# Altium footprint library Connector_PinSocket_2.54mm.PcbLib: 2 footprints
Each footprint in its own frame and in the unit in brackets; x right, y up, seen from the top. Pads: shape width x height; smd on the part's side, far side on the other; paste and mask are expansions set on the pad; w line width, h text height; cw(c..) or ccw(c..) is an arc to the next point about the centre after c.
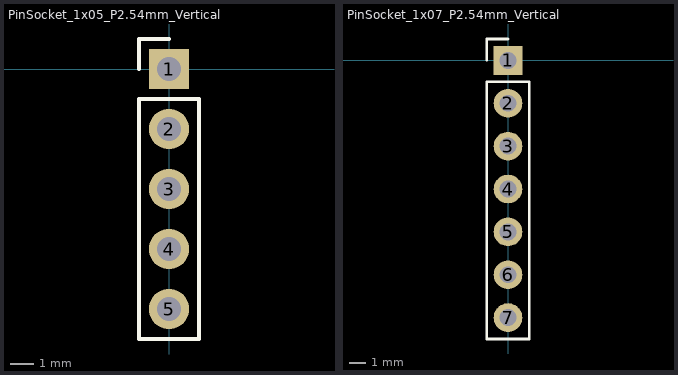
[diagram p0: the footprints below, top view; thin cyan lines are the x and y axes]

## PinSocket_1x05_P2.54mm_Vertical [mm]
pads (5):
  rect 1.7x1.7 hole 1: 1(0,0)
  round 1.7 hole 1: 2(0,-2.54) 3(0,-5.08) 4(0,-7.62) 5(0,-10.16)
Top Overlay:
  lines w0.152: -1.27,0 -1.27,1.27 0,1.27 ; -1.27,-11.43 1.27,-11.43 1.27,-1.27 -1.27,-1.27 -1.27,-11.43
3D body "PinSocket_1x05_P2.54mm_Vertical.step": height 7, standoff -3.1, extent -1.27,-11.43 1.27,1.27

## PinSocket_1x07_P2.54mm_Vertical [mm]
pads (7):
  rect 1.7x1.7 hole 1: 1(0,0)
  round 1.7 hole 1: 2(0,-2.54) 3(0,-5.08) 4(0,-7.62) 5(0,-10.16) 6(0,-12.7) 7(0,-15.24)
Top Overlay:
  lines w0.152: -1.27,0 -1.27,1.27 0,1.27 ; -1.27,-16.51 -1.27,-1.27 1.27,-1.27 1.27,-16.51 -1.27,-16.51
3D body "PinSocket_1x07_P2.54mm_Vertical.step": height 7, standoff -3.1, extent -1.27,-16.51 1.27,1.27